# Altium schematic symbol library CL32B476MPJNNNE.SchLib: 1 symbol
Pins are listed as number, name and electrical type; pins without a type are passive.

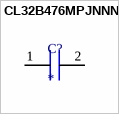
[diagram p0: symbol CL32B476MPJNNNE]

## CL32B476MPJNNNE
designator C?
footprint CAPC3225X27N (Chip Capacitor, 2-Leads, Body 3.20x2.50mm, IPC Medium Density)
pins: 1, 2